# EAGLE library part TFM-110-02-L-D-LC (library Jack-connectors)
Samtec 20 pin dual row SMT .050" Tiger Eye™ High Reliability Terminal Strip
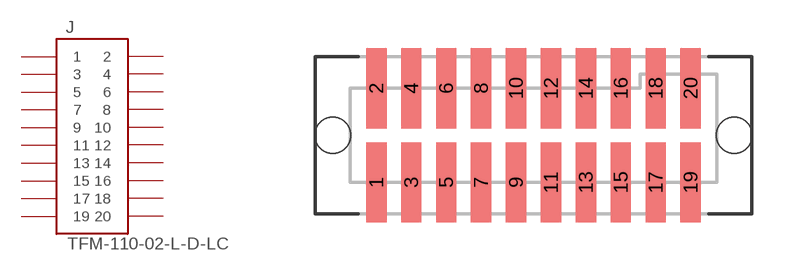
[diagram p10: symbol with the pads of TFM-110-02-L-D-LC; footprint TFM-110-02-L-D-LC]

Designator prefix J

## TFM-110-02-L-D-LC (DESCRIPTION: Samtec 20 pin dual row SMT .050" Tiger Eye™ High Reliability Terminal Strip; PACK: TFM-110-02-L-D-LC)  [TFM-110-02-L-D-LC]
1  1  pas
2  2  pas
3  3  pas
4  4  pas
5  5  pas
6  6  pas
7  7  pas
8  8  pas
9  9  pas
10  10  pas
11  11  pas
12  12  pas
13  13  pas
14  14  pas
15  15  pas
16  16  pas
17  17  pas
18  18  pas
19  19  pas
20  20  pas

## Footprint TFM-110-02-L-D-LC (pad centres in mm)
smd 0.74 x 2.92: 1 -5.715,-1.715; 2 -5.715,1.715; 3 -4.445,-1.715; 4 -4.445,1.715; 5 -3.175,-1.715; 6 -3.175,1.715; 7 -1.905,-1.715; 8 -1.905,1.715; 9 -0.635,-1.715; 10 -0.635,1.715; 11 0.635,-1.715; 12 0.635,1.715; 13 1.905,-1.715; 14 1.905,1.715; 15 3.175,-1.715; 16 3.175,1.715; 17 4.445,-1.715; 18 4.445,1.715; 19 5.715,-1.715; 20 5.715,1.715
hole 1.3 at -7.305,0
hole 1.3 at 7.305,0